# Altium schematic symbol library kmilo17pet-TI_MSP430.SchLib: 1463 symbols (part 65 of 130)
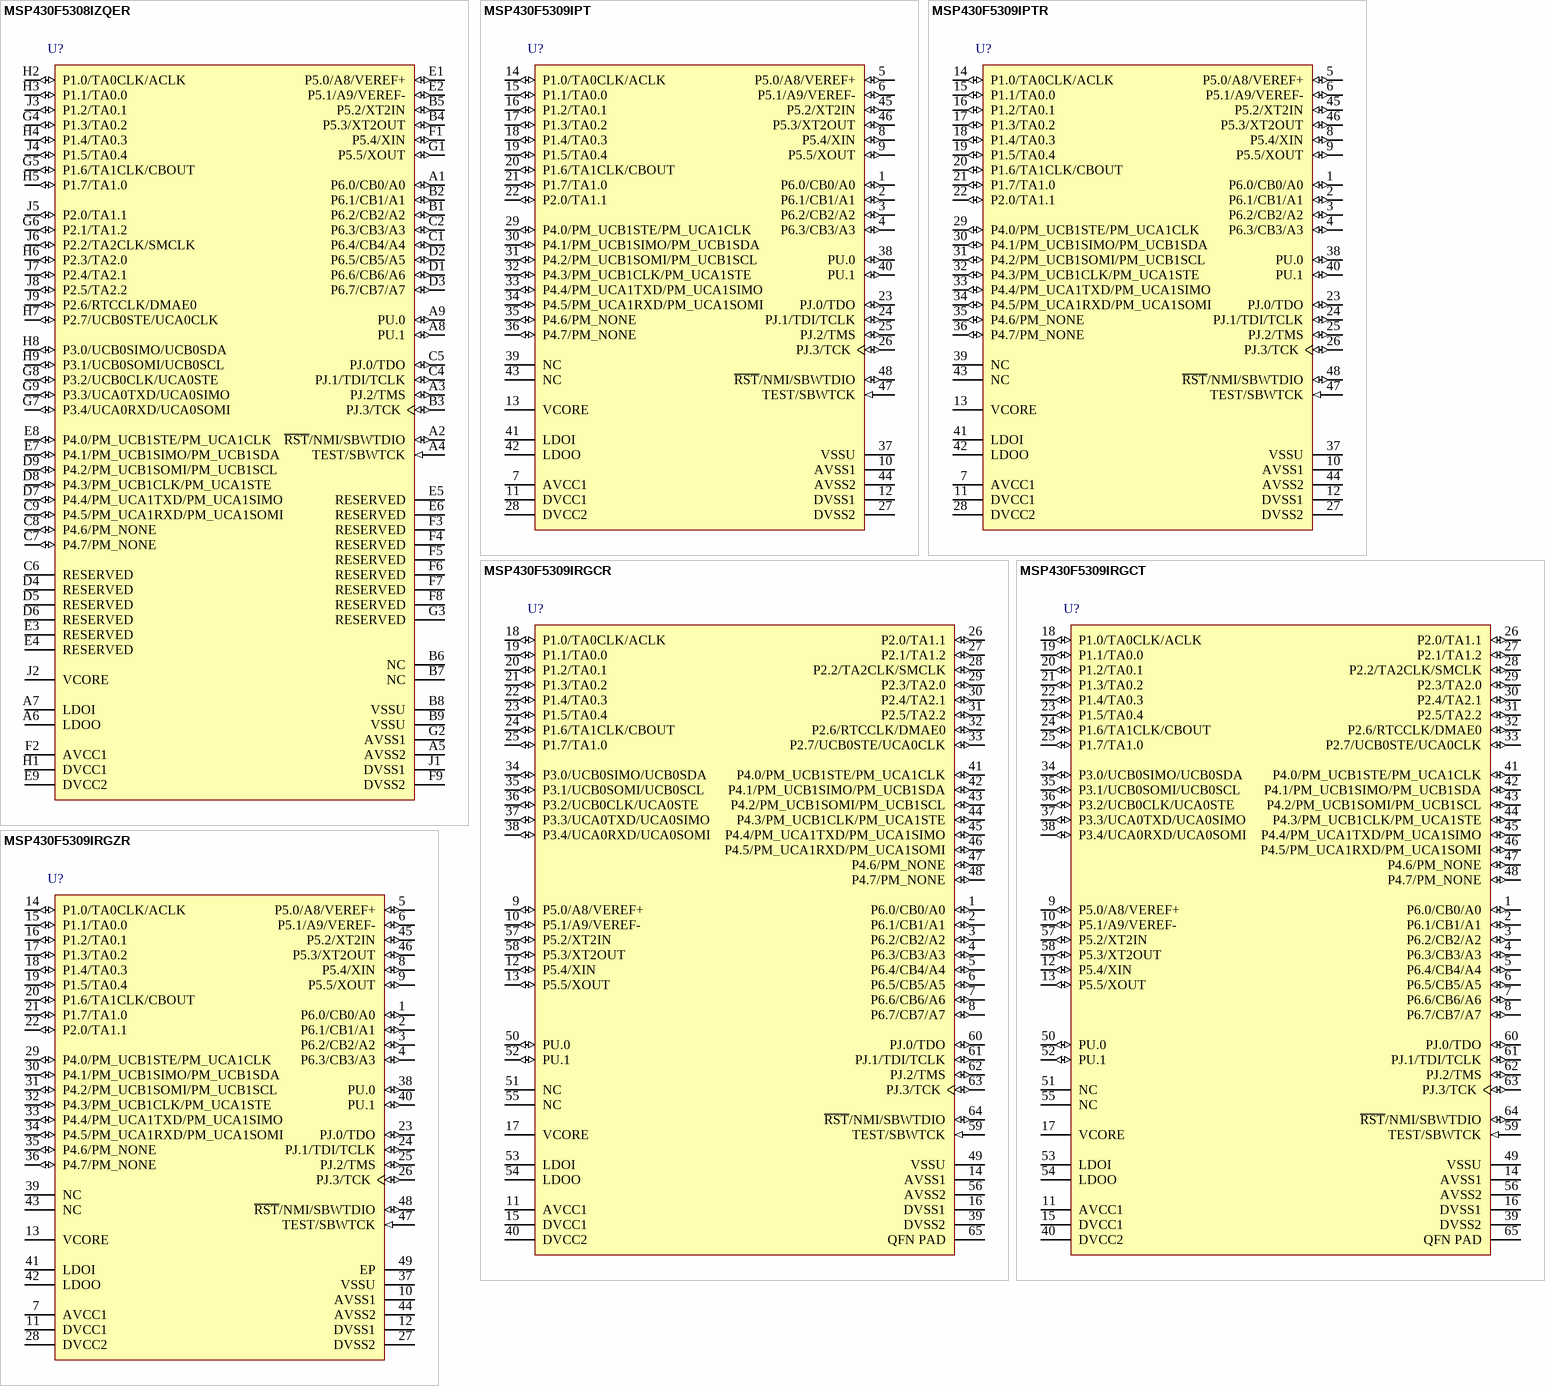
[diagram p268: symbols MSP430F5308IZQER to MSP430F5309IRGZR]

## MSP430F5309IRGCT
designator U?
25 MHz Mixed Signal Microcontroller with 24 KB Flash, 6144 B SRAM and 47 GPIOs, -40 to 85 degC, 64-pin QFN (RGC), Green (RoHS & no Sb/Br); Manufacturer: Texas Instruments; PartNumber: MSP430F5309IRGCT; ADC: 10-bit SAR; ADC Channels: 12; Brown Out Reset: Yes; DMA: 3; Flash(KB): 24; Frequency(MHz): 25; GPIO: 47; Multiplier: 32x32; SRAM(B): 6144; SubFamily: 5 Series; Timers - 16-bit: 4; USCI_A (UART/LIN/IrDA/SPI): 2; DatasheetVersion: SLAS677C; PackageVersion: 4204106/F; PackageReference: RGC64; PackageDescription: 64-Pin Plastic Flat Pack, Body 9 x 9 mm, Pitch 0.5 mm; Supplier 1: Digi-Key; Supplier Part Number 1: MSP430F5309IRGCR-ND; Supplier 2: Mouser; Supplier Part Number 2: 595-MSP430F5309IRGCR; Comparators: Yes; Eco-Plan: Green (RoHS & no Sb/Br); Real-Time Clock: Yes; SVS: Yes; Temp Sensor: Yes; USCI_B (I2C & SPI): 2; Watchdog: Yes; Mounting Technology: Surface Mount; ComponentLink1Description: Manufacturer URL; ComponentLink1URL: http://www.ti.com/; ComponentLink2Description: Datasheet; ComponentLink2URL: http://www.ti.com/general/docs/lit/getliterature.tsp?genericPartNumber=MSP430F5309&fileType=pdf; ComponentLink3Description: Package Specification; ComponentLink3URL: http://www.ti.com/lit/ds/symlink/ucd3138.pdf
footprint TI-RGC64-4250X4250TP_N (QFN, 64-Leads, Body 9x9mm, Pitch 0.5mm, Thermal Pad 4.25x4.25mm, IPC Medium Density)
pins: 1 P6.0/CB0/A0 (io), 2 P6.1/CB1/A1 (io), 3 P6.2/CB2/A2 (io), 4 P6.3/CB3/A3 (io), 5 P6.4/CB4/A4 (io), 6 P6.5/CB5/A5 (io), 7 P6.6/CB6/A6 (io), 8 P6.7/CB7/A7 (io), 9 P5.0/A8/VEREF+ (io), 10 P5.1/A9/VEREF- (io), 11 AVCC1 (power) "Analog power supply", 12 P5.4/XIN (io), 13 P5.5/XOUT (io), 14 AVSS1 (power) "Analog ground supply", 15 DVCC1 (power) "Digital power supply", 16 DVSS1 (power) "Regulated core power supply output (internal use only, no external current loading)", 17 VCORE "Regulated core power supply output (internal use only, no external current loading)", 18 P1.0/TA0CLK/ACLK (io), 19 P1.1/TA0.0 (io), 20 P1.2/TA0.1 (io), 21 P1.3/TA0.2 (io), 22 P1.4/TA0.3 (io), 23 P1.5/TA0.4 (io), 24 P1.6/TA1CLK/CBOUT (io), 25 P1.7/TA1.0 (io), 26 P2.0/TA1.1 (io), 27 P2.1/TA1.2 (io), 28 P2.2/TA2CLK/SMCLK (io), 29 P2.3/TA2.0 (io), 30 P2.4/TA2.1 (io), 31 P2.5/TA2.2 (io), 32 P2.6/RTCCLK/DMAE0 (io), 33 P2.7/UCB0STE/UCA0CLK (io), 34 P3.0/UCB0SIMO/UCB0SDA (io), 35 P3.1/UCB0SOMI/UCB0SCL (io), 36 P3.2/UCB0CLK/UCA0STE (io), 37 P3.3/UCA0TXD/UCA0SIMO (io), 38 P3.4/UCA0RXD/UCA0SOMI (io), 39 DVSS2 (power) "Digital ground supply", 40 DVCC2 (power) "Digital power supply", 41 P4.0/PM_UCB1STE/PM_UCA1CLK (io), 42 P4.1/PM_UCB1SIMO/PM_UCB1SDA (io), 43 P4.2/PM_UCB1SOMI/PM_UCB1SCL (io), 44 P4.3/PM_UCB1CLK/PM_UCA1STE (io), 45 P4.4/PM_UCA1TXD/PM_UCA1SIMO (io), 46 P4.5/PM_UCA1RXD/PM_UCA1SOMI (io), 47 P4.6/PM_NONE (io), 48 P4.7/PM_NONE (io), 49 VSSU (power) "PU ground supply", 50 PU.0 (io) "General-purpose digital I/O - controlled by PU control register", 51 NC "No connect.", 52 PU.1 (io) "General-purpose digital I/O - controlled by PU control register", 53 LDOI (power) "LDO input", 54 LDOO (power) "LDO output", 55 NC "No connect.", 56 AVSS2 (power) "Analog ground supply", 57 P5.2/XT2IN (io), 58 P5.3/XT2OUT (io), 59 TEST/SBWTCK (in), 60 PJ.0/TDO (io), 61 PJ.1/TDI/TCLK (io), 62 PJ.2/TMS (io), 63 PJ.3/TCK (io), 64 ~{RST}/NMI/SBWTDIO (io), 65 QFN PAD (power) "Exposed thermal pad on QFN packages. Connection to VSS is recommended"

## MSP430F5309IRGZR
designator U?
25 MHz Mixed Signal Microcontroller with 24 KB Flash, 6144 B SRAM and 47 GPIOs, -40 to 85 degC, 48-pin QFN (RGZ), Green (RoHS & no Sb/Br); Manufacturer: Texas Instruments; PartNumber: MSP430F5309IRGZR; ADC: 10-bit SAR; ADC Channels: 12; Brown Out Reset: Yes; DMA: 3; Flash(KB): 24; Frequency(MHz): 25; GPIO: 47; Multiplier: 32x32; SRAM(B): 6144; SubFamily: 5 Series; Timers - 16-bit: 4; USCI_A (UART/LIN/IrDA/SPI): 2; DatasheetVersion: SLAS677C; PackageVersion: 4204101/F; PackageReference: RGZ48-5150X5150TP; PackageDescription: 48-Pin Plastic Flat Pack, Body 7 x 7 mm, Pitch 0.5 mm; Supplier 1: Digi-Key; Supplier Part Number 1: MSP430F5309IRGCT-ND; Supplier 2: Mouser; Supplier Part Number 2: 595-MSP430F5309IRGCT; Comparators: Yes; Eco-Plan: Green (RoHS & no Sb/Br); Real-Time Clock: Yes; SVS: Yes; Temp Sensor: Yes; USCI_B (I2C & SPI): 2; Watchdog: Yes; Mounting Technology: Surface Mount; Code_JEDEC: MO-220; ComponentLink1Description: Manufacturer URL; ComponentLink1URL: http://www.ti.com/; ComponentLink2Description: Datasheet; ComponentLink2URL: http://www.ti.com/general/docs/lit/getliterature.tsp?genericPartNumber=MSP430F5309&fileType=pdf; ComponentLink3Description: Package Specification; ComponentLink3URL: http://www.ti.com/lit/ml/mpqf123e/mpqf123e.pdf
footprint TI-RGZ48-5150X5150TP_N (QFN, 48-Leads, Body 7x7mm, Pitch 0.5mm, Thermal Pad 5.15X5.15mm, IPC Medium Density)
pins: 1 P6.0/CB0/A0 (io), 2 P6.1/CB1/A1 (io), 3 P6.2/CB2/A2 (io), 4 P6.3/CB3/A3 (io), 5 P5.0/A8/VEREF+ (io), 6 P5.1/A9/VEREF- (io), 7 AVCC1 (power) "Analog power supply", 8 P5.4/XIN (io), 9 P5.5/XOUT (io), 10 AVSS1 (power) "Analog ground supply", 11 DVCC1 (power) "Digital power supply", 12 DVSS1 (power) "Digital ground supply", 13 VCORE "Regulated core power supply output (internal use only, no external current loading)", 14 P1.0/TA0CLK/ACLK (io), 15 P1.1/TA0.0 (io), 16 P1.2/TA0.1 (io), 17 P1.3/TA0.2 (io), 18 P1.4/TA0.3 (io), 19 P1.5/TA0.4 (io), 20 P1.6/TA1CLK/CBOUT (io), 21 P1.7/TA1.0 (io), 22 P2.0/TA1.1 (io), 23 PJ.0/TDO (io), 24 PJ.1/TDI/TCLK (io), 25 PJ.2/TMS (io), 26 PJ.3/TCK (io), 27 DVSS2 (power) "Digital ground supply", 28 DVCC2 (power) "Digital power supply", 29 P4.0/PM_UCB1STE/PM_UCA1CLK (io), 30 P4.1/PM_UCB1SIMO/PM_UCB1SDA (io), 31 P4.2/PM_UCB1SOMI/PM_UCB1SCL (io), 32 P4.3/PM_UCB1CLK/PM_UCA1STE (io), 33 P4.4/PM_UCA1TXD/PM_UCA1SIMO (io), 34 P4.5/PM_UCA1RXD/PM_UCA1SOMI (io), 35 P4.6/PM_NONE (io), 36 P4.7/PM_NONE (io), 37 VSSU (power) "PU ground supply", 38 PU.0 (io) "General-purpose digital I/O - controlled by PU control register", 39 NC "No connect.", 40 PU.1 (io) "General-purpose digital I/O - controlled by PU control register", 41 LDOI (power) "LDO input", 42 LDOO (power) "LDO output", 43 NC "No connect.", 44 AVSS2 (power) "Analog ground supply", 45 P5.2/XT2IN (io), 46 P5.3/XT2OUT (io), 47 TEST/SBWTCK (in), 48 ~{RST}/NMI/SBWTDIO (io), 49 EP (power) "Exposed thermal pad on QFN packages. Connection to VSS is recommended (not available on PT package devices)."

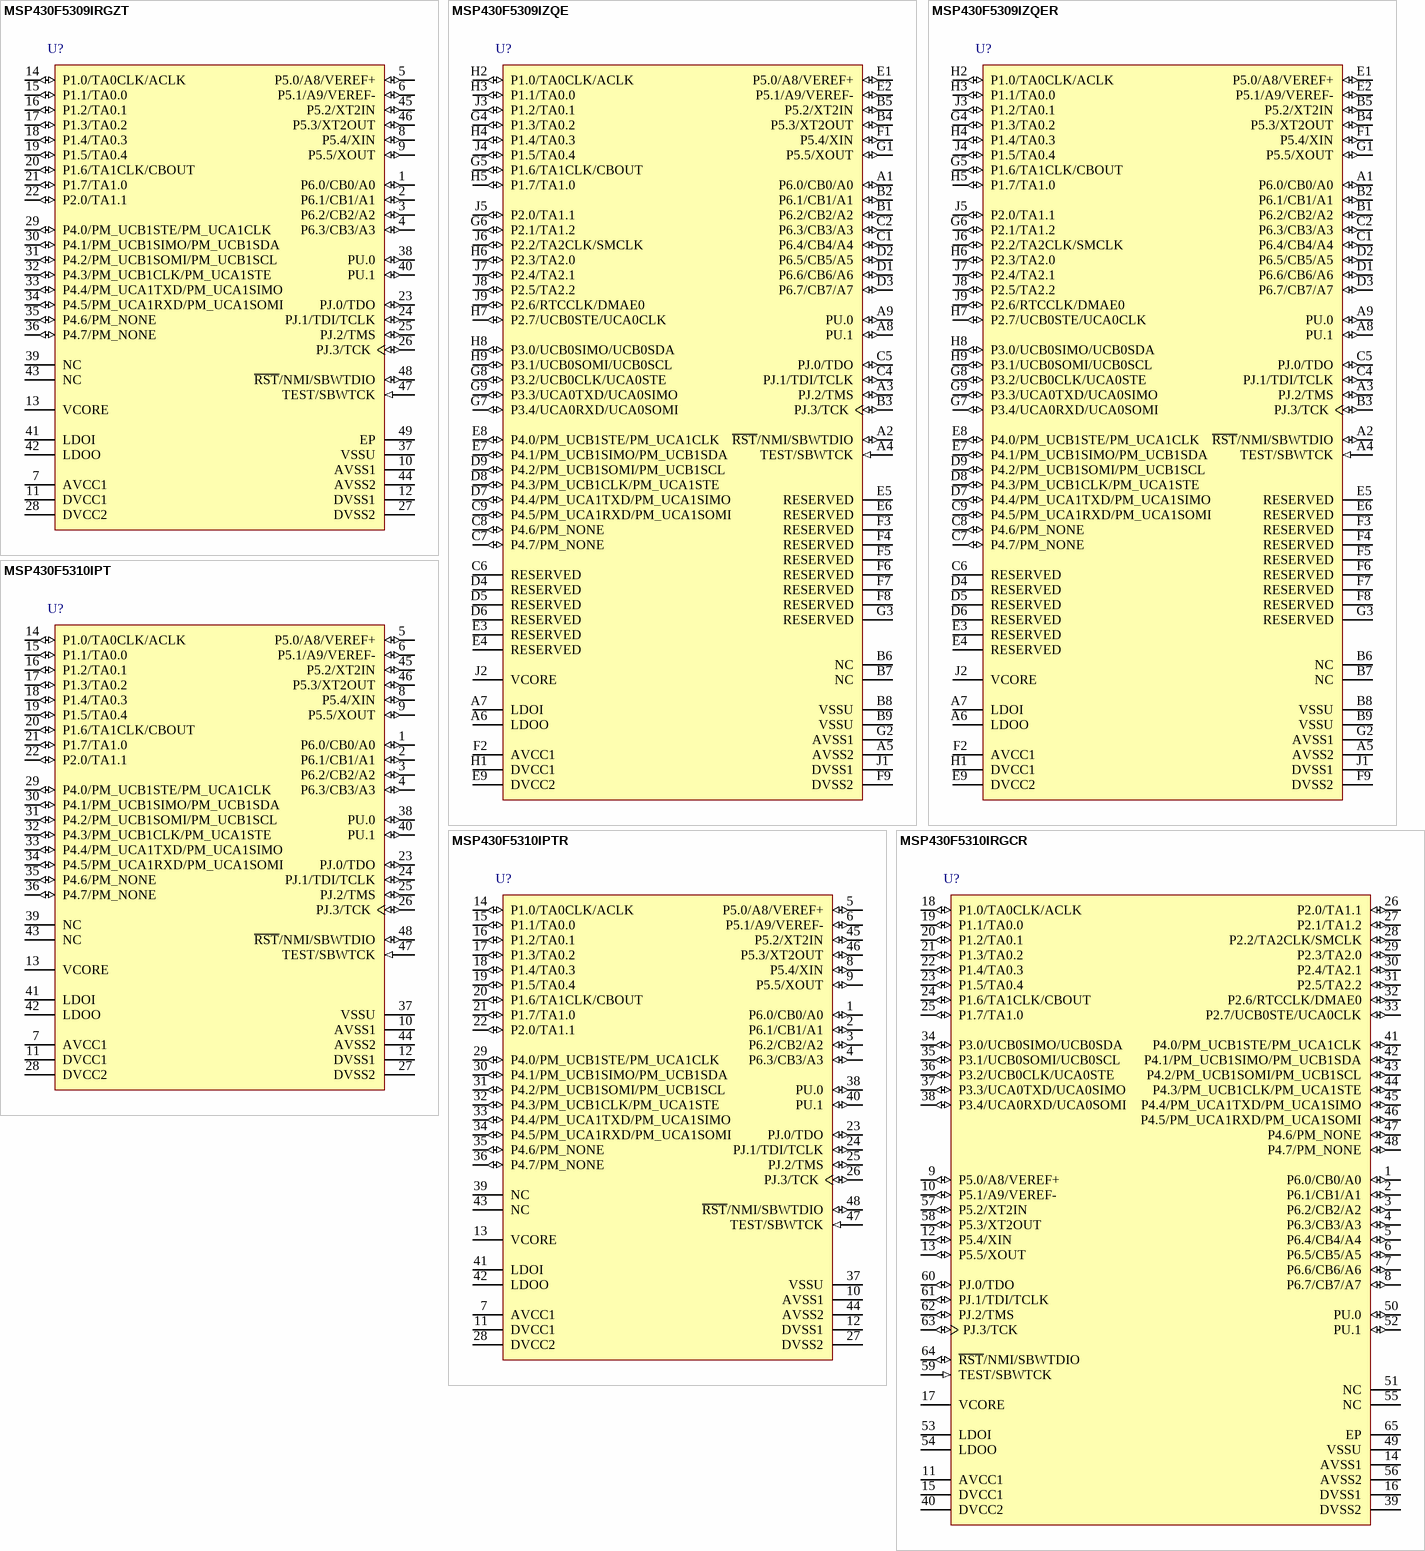
[diagram p96: symbols MSP430F5309IRGZT to MSP430F5310IRGCR]

## MSP430F5309IRGZT
designator U?
25 MHz Mixed Signal Microcontroller with 24 KB Flash, 6144 B SRAM and 47 GPIOs, -40 to 85 degC, 48-pin QFN (RGZ), Green (RoHS & no Sb/Br); Manufacturer: Texas Instruments; PartNumber: MSP430F5309IRGZT; ADC: 10-bit SAR; ADC Channels: 12; Brown Out Reset: Yes; DMA: 3; Flash(KB): 24; Frequency(MHz): 25; GPIO: 47; Multiplier: 32x32; SRAM(B): 6144; SubFamily: 5 Series; Timers - 16-bit: 4; USCI_A (UART/LIN/IrDA/SPI): 2; DatasheetVersion: SLAS677C; PackageVersion: 4204101/F; PackageReference: RGZ48-5150X5150TP; PackageDescription: 48-Pin Plastic Flat Pack, Body 7 x 7 mm, Pitch 0.5 mm; Supplier 1: Digi-Key; Supplier Part Number 1: 296-28192-2-ND; Supplier 2: Digi-Key; Supplier Part Number 2: 296-28192-1-ND; Supplier 3: Digi-Key; Supplier Part Number 3: 296-28192-6-ND; Supplier 4: Farnell; Supplier Part Number 4: 1866786; Supplier 5: Mouser; Supplier Part Number 5: 595-MSP430F5309IRGZR; Comparators: Yes; Eco-Plan: Green (RoHS & no Sb/Br); Real-Time Clock: Yes; SVS: Yes; Temp Sensor: Yes; USCI_B (I2C & SPI): 2; Watchdog: Yes; Mounting Technology: Surface Mount; Code_JEDEC: MO-220; ComponentLink1Description: Manufacturer URL; ComponentLink1URL: http://www.ti.com/; ComponentLink2Description: Datasheet; ComponentLink2URL: http://www.ti.com/general/docs/lit/getliterature.tsp?genericPartNumber=MSP430F5309&fileType=pdf; ComponentLink3Description: Package Specification; ComponentLink3URL: http://www.ti.com/lit/ml/mpqf123e/mpqf123e.pdf
footprint TI-RGZ48-5150X5150TP_N (QFN, 48-Leads, Body 7x7mm, Pitch 0.5mm, Thermal Pad 5.15X5.15mm, IPC Medium Density)
pins: 1 P6.0/CB0/A0 (io), 2 P6.1/CB1/A1 (io), 3 P6.2/CB2/A2 (io), 4 P6.3/CB3/A3 (io), 5 P5.0/A8/VEREF+ (io), 6 P5.1/A9/VEREF- (io), 7 AVCC1 (power) "Analog power supply", 8 P5.4/XIN (io), 9 P5.5/XOUT (io), 10 AVSS1 (power) "Analog ground supply", 11 DVCC1 (power) "Digital power supply", 12 DVSS1 (power) "Digital ground supply", 13 VCORE "Regulated core power supply output (internal use only, no external current loading)", 14 P1.0/TA0CLK/ACLK (io), 15 P1.1/TA0.0 (io), 16 P1.2/TA0.1 (io), 17 P1.3/TA0.2 (io), 18 P1.4/TA0.3 (io), 19 P1.5/TA0.4 (io), 20 P1.6/TA1CLK/CBOUT (io), 21 P1.7/TA1.0 (io), 22 P2.0/TA1.1 (io), 23 PJ.0/TDO (io), 24 PJ.1/TDI/TCLK (io), 25 PJ.2/TMS (io), 26 PJ.3/TCK (io), 27 DVSS2 (power) "Digital ground supply", 28 DVCC2 (power) "Digital power supply", 29 P4.0/PM_UCB1STE/PM_UCA1CLK (io), 30 P4.1/PM_UCB1SIMO/PM_UCB1SDA (io), 31 P4.2/PM_UCB1SOMI/PM_UCB1SCL (io), 32 P4.3/PM_UCB1CLK/PM_UCA1STE (io), 33 P4.4/PM_UCA1TXD/PM_UCA1SIMO (io), 34 P4.5/PM_UCA1RXD/PM_UCA1SOMI (io), 35 P4.6/PM_NONE (io), 36 P4.7/PM_NONE (io), 37 VSSU (power) "PU ground supply", 38 PU.0 (io) "General-purpose digital I/O - controlled by PU control register", 39 NC "No connect.", 40 PU.1 (io) "General-purpose digital I/O - controlled by PU control register", 41 LDOI (power) "LDO input", 42 LDOO (power) "LDO output", 43 NC "No connect.", 44 AVSS2 (power) "Analog ground supply", 45 P5.2/XT2IN (io), 46 P5.3/XT2OUT (io), 47 TEST/SBWTCK (in), 48 ~{RST}/NMI/SBWTDIO (io), 49 EP (power) "Exposed thermal pad on QFN packages. Connection to VSS is recommended (not available on PT package devices)."

## MSP430F5309IZQE
designator U?
25 MHz Mixed Signal Microcontroller with 24 KB Flash, 6144 B SRAM and 47 GPIOs, -40 to 85 degC, 80-pin BGA (ZQE), Green (RoHS & no Sb/Br); Manufacturer: Texas Instruments; PartNumber: MSP430F5309IZQE; ADC: 10-bit SAR; ADC Channels: 12; Brown Out Reset: Yes; DMA: 3; Flash(KB): 24; Frequency(MHz): 25; GPIO: 47; Multiplier: 32x32; SRAM(B): 6144; SubFamily: 5 Series; Timers - 16-bit: 4; USCI_A (UART/LIN/IrDA/SPI): 2; DatasheetVersion: SLAS677C; PackageVersion: 4204334-6/G; PackageReference: ZQE80; PackageDescription: 80-Pin Plastic Ball Grid Array, Body 5 x 5 mm, Pitch 0.5 mm; Supplier 1: Digi-Key; Supplier Part Number 1: 296-30059-2-ND; Supplier 2: Digi-Key; Supplier Part Number 2: 296-30059-1-ND; Supplier 3: Digi-Key; Supplier Part Number 3: 296-30059-6-ND; Supplier 4: Farnell; Supplier Part Number 4: 2072179; Supplier 5: Newark; Supplier Part Number 5: 74T4606; Supplier 6: Mouser; Supplier Part Number 6: 595-MSP430F5309IRGZT; Comparators: Yes; Eco-Plan: Green (RoHS & no Sb/Br); Real-Time Clock: Yes; SVS: Yes; Temp Sensor: Yes; USCI_B (I2C & SPI): 2; Watchdog: Yes; Mounting Technology: Surface Mount; Code_JEDEC: MO-225; ComponentLink1Description: Manufacturer URL; ComponentLink1URL: http://www.ti.com/; ComponentLink2Description: Datasheet; ComponentLink2URL: http://www.ti.com/general/docs/lit/getliterature.tsp?genericPartNumber=MSP430F5309&fileType=pdf; ComponentLink3Description: Package Specification; ComponentLink3URL: http://www.ti.com/litv/pdf/mpbg269e
footprint TI-ZQE80 (BGA, 80-Balls, Body 5x5mm, Pitch 0.5mm)
pins: A1 P6.0/CB0/A0 (io), A2 ~{RST}/NMI/SBWTDIO (io), A3 PJ.2/TMS (io), A4 TEST/SBWTCK (in), A5 AVSS2 (power) "Analog ground supply", A6 LDOO (power) "LDO output", A7 LDOI (power) "LDO input", A8 PU.1 (io) "General-purpose digital I/O - controlled by PU control register", A9 PU.0 (io) "General-purpose digital I/O - controlled by PU control register", B1 P6.2/CB2/A2 (io), B2 P6.1/CB1/A1 (io), B3 PJ.3/TCK (io), B4 P5.3/XT2OUT (io), B5 P5.2/XT2IN (io), B6 NC "No connect.", B7 NC "No connect.", B8 VSSU (power) "USB PHY ground supply", B9 VSSU (power) "USB PHY ground supply", C1 P6.4/CB4/A4 (io), C2 P6.3/CB3/A3 (io), C4 PJ.1/TDI/TCLK (io), C5 PJ.0/TDO (io), C6 RESERVED "should be connected to ground.", C7 P4.7/PM_NONE (io), C8 P4.6/PM_NONE (io), C9 P4.5/PM_UCA1RXD/PM_UCA1SOMI (io), D1 P6.6/CB6/A6 (io), D2 P6.5/CB5/A5 (io), D3 P6.7/CB7/A7 (io), D4 RESERVED "should be connected to ground.", D5 RESERVED "should be connected to ground.", D6 RESERVED "should be connected to ground.", D7 P4.4/PM_UCA1TXD/PM_UCA1SIMO (io), D8 P4.3/PM_UCB1CLK/PM_UCA1STE (io), D9 P4.2/PM_UCB1SOMI/PM_UCB1SCL (io), E1 P5.0/A8/VEREF+ (io), E2 P5.1/A9/VEREF- (io), E3 RESERVED "should be connected to ground.", E4 RESERVED "should be connected to ground.", E5 RESERVED "should be connected to ground.", E6 RESERVED "should be connected to ground.", E7 P4.1/PM_UCB1SIMO/PM_UCB1SDA (io), E8 P4.0/PM_UCB1STE/PM_UCA1CLK (io), E9 DVCC2 (power) "Digital power supply", F1 P5.4/XIN (io), F2 AVCC1 (power) "Analog power supply", F3 RESERVED "should be connected to ground.", F4 RESERVED "should be connected to ground.", F5 RESERVED "should be connected to ground.", F6 RESERVED "should be connected to ground.", F7 RESERVED "should be connected to ground.", F8 RESERVED "should be connected to ground.", F9 DVSS2 (power) "Digital ground supply", G1 P5.5/XOUT (io), G2 AVSS1 (power) "Analog ground supply", G3 RESERVED "should be connected to ground.", G4 P1.3/TA0.2 (io), G5 P1.6/TA1CLK/CBOUT (io), G6 P2.1/TA1.2 (io), G7 P3.4/UCA0RXD/UCA0SOMI (io), G8 P3.2/UCB0CLK/UCA0STE (io), G9 P3.3/UCA0TXD/UCA0SIMO (io), H1 DVCC1 (power) "Digital power supply", H2 P1.0/TA0CLK/ACLK (io), H3 P1.1/TA0.0 (io), H4 P1.4/TA0.3 (io), H5 P1.7/TA1.0 (io), H6 P2.3/TA2.0 (io), H7 P2.7/UCB0STE/UCA0CLK (io), H8 P3.0/UCB0SIMO/UCB0SDA (io), H9 P3.1/UCB0SOMI/UCB0SCL (io), J1 DVSS1 (power) "Digital ground supply", J2 VCORE "Regulated core power supply output (internal use only, no external current loading)", J3 P1.2/TA0.1 (io), J4 P1.5/TA0.4 (io), J5 P2.0/TA1.1 (io), J6 P2.2/TA2CLK/SMCLK (io), J7 P2.4/TA2.1 (io), J8 P2.5/TA2.2 (io), J9 P2.6/RTCCLK/DMAE0 (io)

## MSP430F5309IZQER
designator U?
25 MHz Mixed Signal Microcontroller with 24 KB Flash, 6144 B SRAM and 47 GPIOs, -40 to 85 degC, 80-pin BGA (ZQE), Green (RoHS & no Sb/Br); Manufacturer: Texas Instruments; PartNumber: MSP430F5309IZQER; ADC: 10-bit SAR; ADC Channels: 12; Brown Out Reset: Yes; DMA: 3; Flash(KB): 24; Frequency(MHz): 25; GPIO: 47; Multiplier: 32x32; SRAM(B): 6144; SubFamily: 5 Series; Timers - 16-bit: 4; USCI_A (UART/LIN/IrDA/SPI): 2; DatasheetVersion: SLAS677C; PackageVersion: 4204334-6/G; PackageReference: ZQE80; PackageDescription: 80-Pin Plastic Ball Grid Array, Body 5 x 5 mm, Pitch 0.5 mm; Supplier 1: Digi-Key; Supplier Part Number 1: MSP430F5309IZQE-ND; Supplier 2: Mouser; Supplier Part Number 2: 595-MSP430F5309IZQE; Comparators: Yes; Eco-Plan: Green (RoHS & no Sb/Br); Real-Time Clock: Yes; SVS: Yes; Temp Sensor: Yes; USCI_B (I2C & SPI): 2; Watchdog: Yes; Mounting Technology: Surface Mount; Code_JEDEC: MO-225; ComponentLink1Description: Manufacturer URL; ComponentLink1URL: http://www.ti.com/; ComponentLink2Description: Datasheet; ComponentLink2URL: http://www.ti.com/general/docs/lit/getliterature.tsp?genericPartNumber=MSP430F5309&fileType=pdf; ComponentLink3Description: Package Specification; ComponentLink3URL: http://www.ti.com/litv/pdf/mpbg269e
footprint TI-ZQE80 (BGA, 80-Balls, Body 5x5mm, Pitch 0.5mm)
pins: A1 P6.0/CB0/A0 (io), A2 ~{RST}/NMI/SBWTDIO (io), A3 PJ.2/TMS (io), A4 TEST/SBWTCK (in), A5 AVSS2 (power) "Analog ground supply", A6 LDOO (power) "LDO output", A7 LDOI (power) "LDO input", A8 PU.1 (io) "General-purpose digital I/O - controlled by PU control register", A9 PU.0 (io) "General-purpose digital I/O - controlled by PU control register", B1 P6.2/CB2/A2 (io), B2 P6.1/CB1/A1 (io), B3 PJ.3/TCK (io), B4 P5.3/XT2OUT (io), B5 P5.2/XT2IN (io), B6 NC "No connect.", B7 NC "No connect.", B8 VSSU (power) "USB PHY ground supply", B9 VSSU (power) "USB PHY ground supply", C1 P6.4/CB4/A4 (io), C2 P6.3/CB3/A3 (io), C4 PJ.1/TDI/TCLK (io), C5 PJ.0/TDO (io), C6 RESERVED "should be connected to ground.", C7 P4.7/PM_NONE (io), C8 P4.6/PM_NONE (io), C9 P4.5/PM_UCA1RXD/PM_UCA1SOMI (io), D1 P6.6/CB6/A6 (io), D2 P6.5/CB5/A5 (io), D3 P6.7/CB7/A7 (io), D4 RESERVED "should be connected to ground.", D5 RESERVED "should be connected to ground.", D6 RESERVED "should be connected to ground.", D7 P4.4/PM_UCA1TXD/PM_UCA1SIMO (io), D8 P4.3/PM_UCB1CLK/PM_UCA1STE (io), D9 P4.2/PM_UCB1SOMI/PM_UCB1SCL (io), E1 P5.0/A8/VEREF+ (io), E2 P5.1/A9/VEREF- (io), E3 RESERVED "should be connected to ground.", E4 RESERVED "should be connected to ground.", E5 RESERVED "should be connected to ground.", E6 RESERVED "should be connected to ground.", E7 P4.1/PM_UCB1SIMO/PM_UCB1SDA (io), E8 P4.0/PM_UCB1STE/PM_UCA1CLK (io), E9 DVCC2 (power) "Digital power supply", F1 P5.4/XIN (io), F2 AVCC1 (power) "Analog power supply", F3 RESERVED "should be connected to ground.", F4 RESERVED "should be connected to ground.", F5 RESERVED "should be connected to ground.", F6 RESERVED "should be connected to ground.", F7 RESERVED "should be connected to ground.", F8 RESERVED "should be connected to ground.", F9 DVSS2 (power) "Digital ground supply", G1 P5.5/XOUT (io), G2 AVSS1 (power) "Analog ground supply", G3 RESERVED "should be connected to ground.", G4 P1.3/TA0.2 (io), G5 P1.6/TA1CLK/CBOUT (io), G6 P2.1/TA1.2 (io), G7 P3.4/UCA0RXD/UCA0SOMI (io), G8 P3.2/UCB0CLK/UCA0STE (io), G9 P3.3/UCA0TXD/UCA0SIMO (io), H1 DVCC1 (power) "Digital power supply", H2 P1.0/TA0CLK/ACLK (io), H3 P1.1/TA0.0 (io), H4 P1.4/TA0.3 (io), H5 P1.7/TA1.0 (io), H6 P2.3/TA2.0 (io), H7 P2.7/UCB0STE/UCA0CLK (io), H8 P3.0/UCB0SIMO/UCB0SDA (io), H9 P3.1/UCB0SOMI/UCB0SCL (io), J1 DVSS1 (power) "Digital ground supply", J2 VCORE "Regulated core power supply output (internal use only, no external current loading)", J3 P1.2/TA0.1 (io), J4 P1.5/TA0.4 (io), J5 P2.0/TA1.1 (io), J6 P2.2/TA2CLK/SMCLK (io), J7 P2.4/TA2.1 (io), J8 P2.5/TA2.2 (io), J9 P2.6/RTCCLK/DMAE0 (io)

## MSP430F5310IPT
designator U?
25 MHz Mixed Signal Microcontroller with 32 KB Flash, 6144 B SRAM and 47 GPIOs, -40 to 85 degC, 48-pin QFP (PT), Green (RoHS & no Sb/Br); Manufacturer: Texas Instruments; PartNumber: MSP430F5310IPT; ADC: 10-bit SAR; ADC Channels: 12; Brown Out Reset: Yes; DMA: 3; Flash(KB): 32; Frequency(MHz): 25; GPIO: 47; Multiplier: 32x32; SRAM(B): 6144; SubFamily: 5 Series; Timers - 16-bit: 4; USCI_A (UART/LIN/IrDA/SPI): 2; DatasheetVersion: SLAS677C; PackageReference: PT48; PackageDescription: 48-Pin Plastic Flat Pack, Body 7.00 x 7.00 mm, Pitch 0.50 mm; Supplier 1: Digi-Key; Supplier Part Number 1: 296-28303-2-ND; Supplier 2: Digi-Key; Supplier Part Number 2: 296-28303-1-ND; Supplier 3: Digi-Key; Supplier Part Number 3: 296-28303-6-ND; Supplier 4: Mouser; Supplier Part Number 4: 595-MSP430F5309IZQER; Comparators: Yes; Eco-Plan: Green (RoHS & no Sb/Br); Real-Time Clock: Yes; SVS: Yes; Temp Sensor: Yes; USCI_B (I2C & SPI): 2; Watchdog: Yes; Mounting Technology: Surface Mount; Code_JEDEC: MS-026; ComponentLink1Description: Manufacturer URL; ComponentLink1URL: http://www.ti.com/; ComponentLink2Description: Datasheet; ComponentLink2URL: http://www.ti.com/general/docs/lit/getliterature.tsp?genericPartNumber=MSP430F5310&fileType=pdf; ComponentLink3Description: Package Specification; ComponentLink3URL: http://www.ti.com/lit/ml/mtqf003a/mtqf003a.pdf
footprint TI-PT48_N (QFP, 48-Leads, Body 7x7mm, Pitch 0.5mm, IPC Medium Density)
pins: 1 P6.0/CB0/A0 (io), 2 P6.1/CB1/A1 (io), 3 P6.2/CB2/A2 (io), 4 P6.3/CB3/A3 (io), 5 P5.0/A8/VEREF+ (io), 6 P5.1/A9/VEREF- (io), 7 AVCC1 (power) "Analog power supply", 8 P5.4/XIN (io), 9 P5.5/XOUT (io), 10 AVSS1 (power) "Analog ground supply", 11 DVCC1 (power) "Digital power supply", 12 DVSS1 (power) "Digital ground supply", 13 VCORE "Regulated core power supply output (internal use only, no external current loading)", 14 P1.0/TA0CLK/ACLK (io), 15 P1.1/TA0.0 (io), 16 P1.2/TA0.1 (io), 17 P1.3/TA0.2 (io), 18 P1.4/TA0.3 (io), 19 P1.5/TA0.4 (io), 20 P1.6/TA1CLK/CBOUT (io), 21 P1.7/TA1.0 (io), 22 P2.0/TA1.1 (io), 23 PJ.0/TDO (io), 24 PJ.1/TDI/TCLK (io), 25 PJ.2/TMS (io), 26 PJ.3/TCK (io), 27 DVSS2 (power) "Digital ground supply", 28 DVCC2 (power) "Digital power supply", 29 P4.0/PM_UCB1STE/PM_UCA1CLK (io), 30 P4.1/PM_UCB1SIMO/PM_UCB1SDA (io), 31 P4.2/PM_UCB1SOMI/PM_UCB1SCL (io), 32 P4.3/PM_UCB1CLK/PM_UCA1STE (io), 33 P4.4/PM_UCA1TXD/PM_UCA1SIMO (io), 34 P4.5/PM_UCA1RXD/PM_UCA1SOMI (io), 35 P4.6/PM_NONE (io), 36 P4.7/PM_NONE (io), 37 VSSU (power) "PU ground supply", 38 PU.0 (io) "General-purpose digital I/O - controlled by PU control register", 39 NC "No connect.", 40 PU.1 (io) "General-purpose digital I/O - controlled by PU control register", 41 LDOI (power) "LDO input", 42 LDOO (power) "LDO output", 43 NC "No connect.", 44 AVSS2 (power) "Analog ground supply", 45 P5.2/XT2IN (io), 46 P5.3/XT2OUT (io), 47 TEST/SBWTCK (in), 48 ~{RST}/NMI/SBWTDIO (io)

## MSP430F5310IPTR
designator U?
25 MHz Mixed Signal Microcontroller with 32 KB Flash, 6144 B SRAM and 47 GPIOs, -40 to 85 degC, 48-pin QFP (PT), Green (RoHS & no Sb/Br); Manufacturer: Texas Instruments; PartNumber: MSP430F5310IPTR; ADC: 10-bit SAR; ADC Channels: 12; Brown Out Reset: Yes; DMA: 3; Flash(KB): 32; Frequency(MHz): 25; GPIO: 47; Multiplier: 32x32; SRAM(B): 6144; SubFamily: 5 Series; Timers - 16-bit: 4; USCI_A (UART/LIN/IrDA/SPI): 2; DatasheetVersion: SLAS677C; PackageReference: PT48; PackageDescription: 48-Pin Plastic Flat Pack, Body 7.00 x 7.00 mm, Pitch 0.50 mm; Supplier 1: Digi-Key; Supplier Part Number 1: 296-31689-ND; Supplier 2: Farnell; Supplier Part Number 2: 1866787; Supplier 3: Newark; Supplier Part Number 3: 47T2188; Supplier 4: Mouser; Supplier Part Number 4: 595-MSP430F5310IPT; Comparators: Yes; Eco-Plan: Green (RoHS & no Sb/Br); Real-Time Clock: Yes; SVS: Yes; Temp Sensor: Yes; USCI_B (I2C & SPI): 2; Watchdog: Yes; Mounting Technology: Surface Mount; Code_JEDEC: MS-026; ComponentLink1Description: Manufacturer URL; ComponentLink1URL: http://www.ti.com/; ComponentLink2Description: Datasheet; ComponentLink2URL: http://www.ti.com/general/docs/lit/getliterature.tsp?genericPartNumber=MSP430F5310&fileType=pdf; ComponentLink3Description: Package Specification; ComponentLink3URL: http://www.ti.com/lit/ml/mtqf003a/mtqf003a.pdf
footprint TI-PT48_N (QFP, 48-Leads, Body 7x7mm, Pitch 0.5mm, IPC Medium Density)
pins: 1 P6.0/CB0/A0 (io), 2 P6.1/CB1/A1 (io), 3 P6.2/CB2/A2 (io), 4 P6.3/CB3/A3 (io), 5 P5.0/A8/VEREF+ (io), 6 P5.1/A9/VEREF- (io), 7 AVCC1 (power) "Analog power supply", 8 P5.4/XIN (io), 9 P5.5/XOUT (io), 10 AVSS1 (power) "Analog ground supply", 11 DVCC1 (power) "Digital power supply", 12 DVSS1 (power) "Digital ground supply", 13 VCORE "Regulated core power supply output (internal use only, no external current loading)", 14 P1.0/TA0CLK/ACLK (io), 15 P1.1/TA0.0 (io), 16 P1.2/TA0.1 (io), 17 P1.3/TA0.2 (io), 18 P1.4/TA0.3 (io), 19 P1.5/TA0.4 (io), 20 P1.6/TA1CLK/CBOUT (io), 21 P1.7/TA1.0 (io), 22 P2.0/TA1.1 (io), 23 PJ.0/TDO (io), 24 PJ.1/TDI/TCLK (io), 25 PJ.2/TMS (io), 26 PJ.3/TCK (io), 27 DVSS2 (power) "Digital ground supply", 28 DVCC2 (power) "Digital power supply", 29 P4.0/PM_UCB1STE/PM_UCA1CLK (io), 30 P4.1/PM_UCB1SIMO/PM_UCB1SDA (io), 31 P4.2/PM_UCB1SOMI/PM_UCB1SCL (io), 32 P4.3/PM_UCB1CLK/PM_UCA1STE (io), 33 P4.4/PM_UCA1TXD/PM_UCA1SIMO (io), 34 P4.5/PM_UCA1RXD/PM_UCA1SOMI (io), 35 P4.6/PM_NONE (io), 36 P4.7/PM_NONE (io), 37 VSSU (power) "PU ground supply", 38 PU.0 (io) "General-purpose digital I/O - controlled by PU control register", 39 NC "No connect.", 40 PU.1 (io) "General-purpose digital I/O - controlled by PU control register", 41 LDOI (power) "LDO input", 42 LDOO (power) "LDO output", 43 NC "No connect.", 44 AVSS2 (power) "Analog ground supply", 45 P5.2/XT2IN (io), 46 P5.3/XT2OUT (io), 47 TEST/SBWTCK (in), 48 ~{RST}/NMI/SBWTDIO (io)

## MSP430F5310IRGCR
designator U?
25 MHz Mixed Signal Microcontroller with 32 KB Flash, 6144 B SRAM and 47 GPIOs, -40 to 85 degC, 64-pin QFN (RGC), Green (RoHS & no Sb/Br); Manufacturer: Texas Instruments; PartNumber: MSP430F5310IRGCR; ADC: 10-bit SAR; ADC Channels: 12; Brown Out Reset: Yes; DMA: 3; Flash(KB): 32; Frequency(MHz): 25; GPIO: 47; Multiplier: 32x32; SRAM(B): 6144; SubFamily: 5 Series; Timers - 16-bit: 4; USCI_A (UART/LIN/IrDA/SPI): 2; DatasheetVersion: SLAS677C; PackageVersion: 4204106/F; PackageReference: RGC64; PackageDescription: 64-Pin Plastic Flat Pack, Body 9 x 9 mm, Pitch 0.5 mm; Supplier 1: Digi-Key; Supplier Part Number 1: 296-28193-2-ND; Supplier 2: Digi-Key; Supplier Part Number 2: 296-28193-1-ND; Supplier 3: Digi-Key; Supplier Part Number 3: 296-28193-6-ND; Supplier 4: Newark; Supplier Part Number 4: 27T6601; Supplier 5: Mouser; Supplier Part Number 5: 595-MSP430F5310IPTR; Comparators: Yes; Eco-Plan: Green (RoHS & no Sb/Br); Real-Time Clock: Yes; SVS: Yes; Temp Sensor: Yes; USCI_B (I2C & SPI): 2; Watchdog: Yes; Mounting Technology: Surface Mount; ComponentLink1Description: Manufacturer URL; ComponentLink1URL: http://www.ti.com/; ComponentLink2Description: Datasheet; ComponentLink2URL: http://www.ti.com/general/docs/lit/getliterature.tsp?genericPartNumber=MSP430F5310&fileType=pdf; ComponentLink3Description: Package Specification; ComponentLink3URL: http://www.ti.com/lit/ds/symlink/ucd3138.pdf
footprint TI-RGC64-4250X4250TP_N (QFN, 64-Leads, Body 9x9mm, Pitch 0.5mm, Thermal Pad 4.25x4.25mm, IPC Medium Density)
pins: 1 P6.0/CB0/A0 (io), 2 P6.1/CB1/A1 (io), 3 P6.2/CB2/A2 (io), 4 P6.3/CB3/A3 (io), 5 P6.4/CB4/A4 (io), 6 P6.5/CB5/A5 (io), 7 P6.6/CB6/A6 (io), 8 P6.7/CB7/A7 (io), 9 P5.0/A8/VEREF+ (io), 10 P5.1/A9/VEREF- (io), 11 AVCC1 (power) "Analog power supply", 12 P5.4/XIN (io), 13 P5.5/XOUT (io), 14 AVSS1 (power) "Analog ground supply", 15 DVCC1 (power) "Digital power supply", 16 DVSS1 (power) "Digital ground supply", 17 VCORE "Regulated core power supply output (internal use only, no external current loading)", 18 P1.0/TA0CLK/ACLK (io), 19 P1.1/TA0.0 (io), 20 P1.2/TA0.1 (io), 21 P1.3/TA0.2 (io), 22 P1.4/TA0.3 (io), 23 P1.5/TA0.4 (io), 24 P1.6/TA1CLK/CBOUT (io), 25 P1.7/TA1.0 (io), 26 P2.0/TA1.1 (io), 27 P2.1/TA1.2 (io), 28 P2.2/TA2CLK/SMCLK (io), 29 P2.3/TA2.0 (io), 30 P2.4/TA2.1 (io), 31 P2.5/TA2.2 (io), 32 P2.6/RTCCLK/DMAE0 (io), 33 P2.7/UCB0STE/UCA0CLK (io), 34 P3.0/UCB0SIMO/UCB0SDA (io), 35 P3.1/UCB0SOMI/UCB0SCL (io), 36 P3.2/UCB0CLK/UCA0STE (io), 37 P3.3/UCA0TXD/UCA0SIMO (io), 38 P3.4/UCA0RXD/UCA0SOMI (io), 39 DVSS2 (power) "Digital ground supply", 40 DVCC2 (power) "Digital power supply", 41 P4.0/PM_UCB1STE/PM_UCA1CLK (io), 42 P4.1/PM_UCB1SIMO/PM_UCB1SDA (io), 43 P4.2/PM_UCB1SOMI/PM_UCB1SCL (io), 44 P4.3/PM_UCB1CLK/PM_UCA1STE (io), 45 P4.4/PM_UCA1TXD/PM_UCA1SIMO (io), 46 P4.5/PM_UCA1RXD/PM_UCA1SOMI (io), 47 P4.6/PM_NONE (io), 48 P4.7/PM_NONE (io), 49 VSSU (power) "PU ground supply", 50 PU.0 (io) "General-purpose digital I/O - controlled by PU control register", 51 NC "No connect.", 52 PU.1 (io) "General-purpose digital I/O - controlled by PU control register", 53 LDOI (power) "LDO input", 54 LDOO (power) "LDO output", 55 NC "No connect.", 56 AVSS2 (power) "Analog ground supply", 57 P5.2/XT2IN (io), 58 P5.3/XT2OUT (io), 59 TEST/SBWTCK (in), 60 PJ.0/TDO (io), 61 PJ.1/TDI/TCLK (io), 62 PJ.2/TMS (io), 63 PJ.3/TCK (io), 64 ~{RST}/NMI/SBWTDIO (io), 65 EP (power) "Exposed thermal pad on QFN packages. Connection to VSS is recommended"

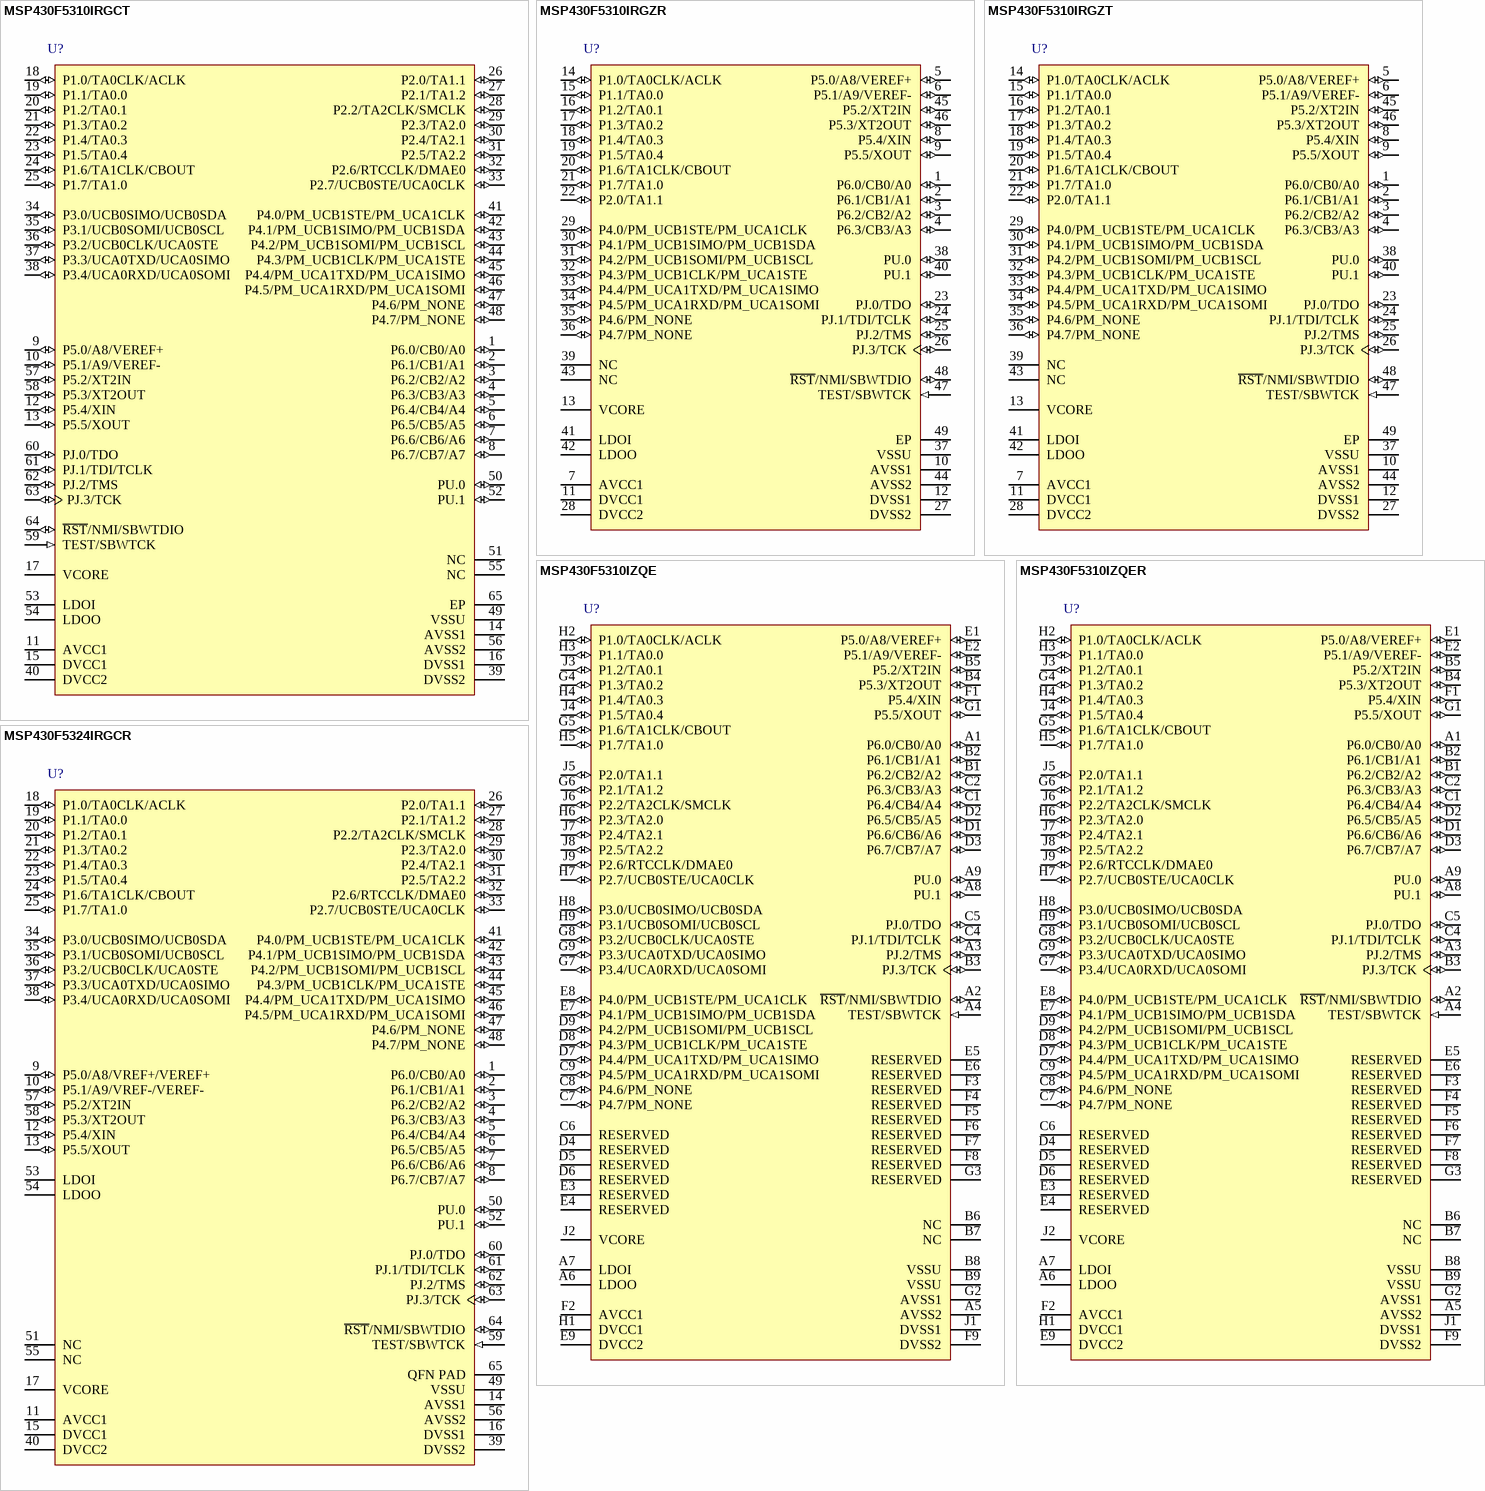
[diagram p97: symbols MSP430F5310IRGCT to MSP430F5324IRGCR]

## MSP430F5310IRGCT
designator U?
25 MHz Mixed Signal Microcontroller with 32 KB Flash, 6144 B SRAM and 47 GPIOs, -40 to 85 degC, 64-pin QFN (RGC), Green (RoHS & no Sb/Br); Manufacturer: Texas Instruments; PartNumber: MSP430F5310IRGCT; ADC: 10-bit SAR; ADC Channels: 12; Brown Out Reset: Yes; DMA: 3; Flash(KB): 32; Frequency(MHz): 25; GPIO: 47; Multiplier: 32x32; SRAM(B): 6144; SubFamily: 5 Series; Timers - 16-bit: 4; USCI_A (UART/LIN/IrDA/SPI): 2; DatasheetVersion: SLAS677C; PackageVersion: 4204106/F; PackageReference: RGC64; PackageDescription: 64-Pin Plastic Flat Pack, Body 9 x 9 mm, Pitch 0.5 mm; Supplier 1: Digi-Key; Supplier Part Number 1: 296-28132-2-ND; Supplier 2: Digi-Key; Supplier Part Number 2: 296-28132-1-ND; Supplier 3: Digi-Key; Supplier Part Number 3: 296-28132-6-ND; Supplier 4: Farnell; Supplier Part Number 4: 1866788; Supplier 5: Newark; Supplier Part Number 5: 47T2189; Supplier 6: Newark; Supplier Part Number 6: 27T6602; Supplier 7: Mouser; Supplier Part Number 7: 595-MSP430F5310IRGCR; Comparators: Yes; Eco-Plan: Green (RoHS & no Sb/Br); Real-Time Clock: Yes; SVS: Yes; Temp Sensor: Yes; USCI_B (I2C & SPI): 2; Watchdog: Yes; Mounting Technology: Surface Mount; ComponentLink1Description: Manufacturer URL; ComponentLink1URL: http://www.ti.com/; ComponentLink2Description: Datasheet; ComponentLink2URL: http://www.ti.com/general/docs/lit/getliterature.tsp?genericPartNumber=MSP430F5310&fileType=pdf; ComponentLink3Description: Package Specification; ComponentLink3URL: http://www.ti.com/lit/ds/symlink/ucd3138.pdf
footprint TI-RGC64-4250X4250TP_N (QFN, 64-Leads, Body 9x9mm, Pitch 0.5mm, Thermal Pad 4.25x4.25mm, IPC Medium Density)
pins: 1 P6.0/CB0/A0 (io), 2 P6.1/CB1/A1 (io), 3 P6.2/CB2/A2 (io), 4 P6.3/CB3/A3 (io), 5 P6.4/CB4/A4 (io), 6 P6.5/CB5/A5 (io), 7 P6.6/CB6/A6 (io), 8 P6.7/CB7/A7 (io), 9 P5.0/A8/VEREF+ (io), 10 P5.1/A9/VEREF- (io), 11 AVCC1 (power) "Analog power supply", 12 P5.4/XIN (io), 13 P5.5/XOUT (io), 14 AVSS1 (power) "Analog ground supply", 15 DVCC1 (power) "Digital power supply", 16 DVSS1 (power) "Digital ground supply", 17 VCORE "Regulated core power supply output (internal use only, no external current loading)", 18 P1.0/TA0CLK/ACLK (io), 19 P1.1/TA0.0 (io), 20 P1.2/TA0.1 (io), 21 P1.3/TA0.2 (io), 22 P1.4/TA0.3 (io), 23 P1.5/TA0.4 (io), 24 P1.6/TA1CLK/CBOUT (io), 25 P1.7/TA1.0 (io), 26 P2.0/TA1.1 (io), 27 P2.1/TA1.2 (io), 28 P2.2/TA2CLK/SMCLK (io), 29 P2.3/TA2.0 (io), 30 P2.4/TA2.1 (io), 31 P2.5/TA2.2 (io), 32 P2.6/RTCCLK/DMAE0 (io), 33 P2.7/UCB0STE/UCA0CLK (io), 34 P3.0/UCB0SIMO/UCB0SDA (io), 35 P3.1/UCB0SOMI/UCB0SCL (io), 36 P3.2/UCB0CLK/UCA0STE (io), 37 P3.3/UCA0TXD/UCA0SIMO (io), 38 P3.4/UCA0RXD/UCA0SOMI (io), 39 DVSS2 (power) "Digital ground supply", 40 DVCC2 (power) "Digital power supply", 41 P4.0/PM_UCB1STE/PM_UCA1CLK (io), 42 P4.1/PM_UCB1SIMO/PM_UCB1SDA (io), 43 P4.2/PM_UCB1SOMI/PM_UCB1SCL (io), 44 P4.3/PM_UCB1CLK/PM_UCA1STE (io), 45 P4.4/PM_UCA1TXD/PM_UCA1SIMO (io), 46 P4.5/PM_UCA1RXD/PM_UCA1SOMI (io), 47 P4.6/PM_NONE (io), 48 P4.7/PM_NONE (io), 49 VSSU (power) "PU ground supply", 50 PU.0 (io) "General-purpose digital I/O - controlled by PU control register", 51 NC "No connect.", 52 PU.1 (io) "General-purpose digital I/O - controlled by PU control register", 53 LDOI (power) "LDO input", 54 LDOO (power) "LDO output", 55 NC "No connect.", 56 AVSS2 (power) "Analog ground supply", 57 P5.2/XT2IN (io), 58 P5.3/XT2OUT (io), 59 TEST/SBWTCK (in), 60 PJ.0/TDO (io), 61 PJ.1/TDI/TCLK (io), 62 PJ.2/TMS (io), 63 PJ.3/TCK (io), 64 ~{RST}/NMI/SBWTDIO (io), 65 EP (power) "Exposed thermal pad on QFN packages. Connection to VSS is recommended"

## MSP430F5310IRGZR
designator U?
25 MHz Mixed Signal Microcontroller with 32 KB Flash, 6144 B SRAM and 47 GPIOs, -40 to 85 degC, 48-pin QFN (RGZ), Green (RoHS & no Sb/Br); Manufacturer: Texas Instruments; PartNumber: MSP430F5310IRGZR; ADC: 10-bit SAR; ADC Channels: 12; Brown Out Reset: Yes; DMA: 3; Flash(KB): 32; Frequency(MHz): 25; GPIO: 47; Multiplier: 32x32; SRAM(B): 6144; SubFamily: 5 Series; Timers - 16-bit: 4; USCI_A (UART/LIN/IrDA/SPI): 2; DatasheetVersion: SLAS677C; PackageVersion: 4204101/F; PackageReference: RGZ48-5150X5150TP; PackageDescription: 48-Pin Plastic Flat Pack, Body 7 x 7 mm, Pitch 0.5 mm; Supplier 1: Digi-Key; Supplier Part Number 1: 296-31690-2-ND; Supplier 2: Digi-Key; Supplier Part Number 2: 296-31690-1-ND; Supplier 3: Digi-Key; Supplier Part Number 3: 296-31690-6-ND; Supplier 4: Mouser; Supplier Part Number 4: 595-MSP430F5310IRGCT; Comparators: Yes; Eco-Plan: Green (RoHS & no Sb/Br); Real-Time Clock: Yes; SVS: Yes; Temp Sensor: Yes; USCI_B (I2C & SPI): 2; Watchdog: Yes; Mounting Technology: Surface Mount; Code_JEDEC: MO-220; ComponentLink1Description: Manufacturer URL; ComponentLink1URL: http://www.ti.com/; ComponentLink2Description: Datasheet; ComponentLink2URL: http://www.ti.com/general/docs/lit/getliterature.tsp?genericPartNumber=MSP430F5310&fileType=pdf; ComponentLink3Description: Package Specification; ComponentLink3URL: http://www.ti.com/lit/ml/mpqf123e/mpqf123e.pdf
footprint TI-RGZ48-5150X5150TP_N (QFN, 48-Leads, Body 7x7mm, Pitch 0.5mm, Thermal Pad 5.15X5.15mm, IPC Medium Density)
pins: 1 P6.0/CB0/A0 (io), 2 P6.1/CB1/A1 (io), 3 P6.2/CB2/A2 (io), 4 P6.3/CB3/A3 (io), 5 P5.0/A8/VEREF+ (io), 6 P5.1/A9/VEREF- (io), 7 AVCC1 (power) "Analog power supply", 8 P5.4/XIN (io), 9 P5.5/XOUT (io), 10 AVSS1 (power) "Analog ground supply", 11 DVCC1 (power) "Digital power supply", 12 DVSS1 (power) "Digital ground supply", 13 VCORE "Regulated core power supply output (internal use only, no external current loading)", 14 P1.0/TA0CLK/ACLK (io), 15 P1.1/TA0.0 (io), 16 P1.2/TA0.1 (io), 17 P1.3/TA0.2 (io), 18 P1.4/TA0.3 (io), 19 P1.5/TA0.4 (io), 20 P1.6/TA1CLK/CBOUT (io), 21 P1.7/TA1.0 (io), 22 P2.0/TA1.1 (io), 23 PJ.0/TDO (io), 24 PJ.1/TDI/TCLK (io), 25 PJ.2/TMS (io), 26 PJ.3/TCK (io), 27 DVSS2 (power) "Digital ground supply", 28 DVCC2 (power) "Digital power supply", 29 P4.0/PM_UCB1STE/PM_UCA1CLK (io), 30 P4.1/PM_UCB1SIMO/PM_UCB1SDA (io), 31 P4.2/PM_UCB1SOMI/PM_UCB1SCL (io), 32 P4.3/PM_UCB1CLK/PM_UCA1STE (io), 33 P4.4/PM_UCA1TXD/PM_UCA1SIMO (io), 34 P4.5/PM_UCA1RXD/PM_UCA1SOMI (io), 35 P4.6/PM_NONE (io), 36 P4.7/PM_NONE (io), 37 VSSU (power) "PU ground supply", 38 PU.0 (io) "General-purpose digital I/O - controlled by PU control register", 39 NC "No connect.", 40 PU.1 (io) "General-purpose digital I/O - controlled by PU control register", 41 LDOI (power) "LDO input", 42 LDOO (power) "LDO output", 43 NC "No connect.", 44 AVSS2 (power) "Analog ground supply", 45 P5.2/XT2IN (io), 46 P5.3/XT2OUT (io), 47 TEST/SBWTCK (in), 48 ~{RST}/NMI/SBWTDIO (io), 49 EP (power) "Exposed thermal pad on QFN packages. Connection to VSS is recommended (not available on PT package devices)."

## MSP430F5310IRGZT
designator U?
25 MHz Mixed Signal Microcontroller with 32 KB Flash, 6144 B SRAM and 47 GPIOs, -40 to 85 degC, 48-pin QFN (RGZ), Green (RoHS & no Sb/Br); Manufacturer: Texas Instruments; PartNumber: MSP430F5310IRGZT; ADC: 10-bit SAR; ADC Channels: 12; Brown Out Reset: Yes; DMA: 3; Flash(KB): 32; Frequency(MHz): 25; GPIO: 47; Multiplier: 32x32; SRAM(B): 6144; SubFamily: 5 Series; Timers - 16-bit: 4; USCI_A (UART/LIN/IrDA/SPI): 2; DatasheetVersion: SLAS677C; PackageVersion: 4204101/F; PackageReference: RGZ48-5150X5150TP; PackageDescription: 48-Pin Plastic Flat Pack, Body 7 x 7 mm, Pitch 0.5 mm; Supplier 1: Digi-Key; Supplier Part Number 1: 296-28133-2-ND; Supplier 2: Digi-Key; Supplier Part Number 2: 296-28133-1-ND; Supplier 3: Digi-Key; Supplier Part Number 3: 296-28133-6-ND; Supplier 4: Farnell; Supplier Part Number 4: 1866789; Supplier 5: Newark; Supplier Part Number 5: 47T2190; Supplier 6: Newark; Supplier Part Number 6: 27T6604; Supplier 7: Mouser; Supplier Part Number 7: 595-MSP430F5310IRGZR; Comparators: Yes; Eco-Plan: Green (RoHS & no Sb/Br); Real-Time Clock: Yes; SVS: Yes; Temp Sensor: Yes; USCI_B (I2C & SPI): 2; Watchdog: Yes; Mounting Technology: Surface Mount; Code_JEDEC: MO-220; ComponentLink1Description: Manufacturer URL; ComponentLink1URL: http://www.ti.com/; ComponentLink2Description: Datasheet; ComponentLink2URL: http://www.ti.com/general/docs/lit/getliterature.tsp?genericPartNumber=MSP430F5310&fileType=pdf; ComponentLink3Description: Package Specification; ComponentLink3URL: http://www.ti.com/lit/ml/mpqf123e/mpqf123e.pdf
footprint TI-RGZ48-5150X5150TP_N (QFN, 48-Leads, Body 7x7mm, Pitch 0.5mm, Thermal Pad 5.15X5.15mm, IPC Medium Density)
pins: 1 P6.0/CB0/A0 (io), 2 P6.1/CB1/A1 (io), 3 P6.2/CB2/A2 (io), 4 P6.3/CB3/A3 (io), 5 P5.0/A8/VEREF+ (io), 6 P5.1/A9/VEREF- (io), 7 AVCC1 (power) "Analog power supply", 8 P5.4/XIN (io), 9 P5.5/XOUT (io), 10 AVSS1 (power) "Analog ground supply", 11 DVCC1 (power) "Digital power supply", 12 DVSS1 (power) "Digital ground supply", 13 VCORE "Regulated core power supply output (internal use only, no external current loading)", 14 P1.0/TA0CLK/ACLK (io), 15 P1.1/TA0.0 (io), 16 P1.2/TA0.1 (io), 17 P1.3/TA0.2 (io), 18 P1.4/TA0.3 (io), 19 P1.5/TA0.4 (io), 20 P1.6/TA1CLK/CBOUT (io), 21 P1.7/TA1.0 (io), 22 P2.0/TA1.1 (io), 23 PJ.0/TDO (io), 24 PJ.1/TDI/TCLK (io), 25 PJ.2/TMS (io), 26 PJ.3/TCK (io), 27 DVSS2 (power) "Digital ground supply", 28 DVCC2 (power) "Digital power supply", 29 P4.0/PM_UCB1STE/PM_UCA1CLK (io), 30 P4.1/PM_UCB1SIMO/PM_UCB1SDA (io), 31 P4.2/PM_UCB1SOMI/PM_UCB1SCL (io), 32 P4.3/PM_UCB1CLK/PM_UCA1STE (io), 33 P4.4/PM_UCA1TXD/PM_UCA1SIMO (io), 34 P4.5/PM_UCA1RXD/PM_UCA1SOMI (io), 35 P4.6/PM_NONE (io), 36 P4.7/PM_NONE (io), 37 VSSU (power) "PU ground supply", 38 PU.0 (io) "General-purpose digital I/O - controlled by PU control register", 39 NC "No connect.", 40 PU.1 (io) "General-purpose digital I/O - controlled by PU control register", 41 LDOI (power) "LDO input", 42 LDOO (power) "LDO output", 43 NC "No connect.", 44 AVSS2 (power) "Analog ground supply", 45 P5.2/XT2IN (io), 46 P5.3/XT2OUT (io), 47 TEST/SBWTCK (in), 48 ~{RST}/NMI/SBWTDIO (io), 49 EP (power) "Exposed thermal pad on QFN packages. Connection to VSS is recommended (not available on PT package devices)."

## MSP430F5310IZQE
designator U?
25 MHz Mixed Signal Microcontroller with 32 KB Flash, 6144 B SRAM and 47 GPIOs, -40 to 85 degC, 80-pin BGA (ZQE), Green (RoHS & no Sb/Br); Manufacturer: Texas Instruments; PartNumber: MSP430F5310IZQE; ADC: 10-bit SAR; ADC Channels: 12; Brown Out Reset: Yes; DMA: 3; Flash(KB): 32; Frequency(MHz): 25; GPIO: 47; Multiplier: 32x32; SRAM(B): 6144; SubFamily: 5 Series; Timers - 16-bit: 4; USCI_A (UART/LIN/IrDA/SPI): 2; DatasheetVersion: SLAS677C; PackageVersion: 4204334-6/G; PackageReference: ZQE80; PackageDescription: 80-Pin Plastic Ball Grid Array, Body 5 x 5 mm, Pitch 0.5 mm; Supplier 1: Digi-Key; Supplier Part Number 1: MSP430F5310IRGZT-ND; Supplier 2: Newark; Supplier Part Number 2: 32T2958; Supplier 3: Mouser; Supplier Part Number 3: 595-MSP430F5310IRGZT; Comparators: Yes; Eco-Plan: Green (RoHS & no Sb/Br); Real-Time Clock: Yes; SVS: Yes; Temp Sensor: Yes; USCI_B (I2C & SPI): 2; Watchdog: Yes; Mounting Technology: Surface Mount; Code_JEDEC: MO-225; ComponentLink1Description: Manufacturer URL; ComponentLink1URL: http://www.ti.com/; ComponentLink2Description: Datasheet; ComponentLink2URL: http://www.ti.com/general/docs/lit/getliterature.tsp?genericPartNumber=MSP430F5310&fileType=pdf; ComponentLink3Description: Package Specification; ComponentLink3URL: http://www.ti.com/litv/pdf/mpbg269e
footprint TI-ZQE80 (BGA, 80-Balls, Body 5x5mm, Pitch 0.5mm)
pins: A1 P6.0/CB0/A0 (io), A2 ~{RST}/NMI/SBWTDIO (io), A3 PJ.2/TMS (io), A4 TEST/SBWTCK (in), A5 AVSS2 (power) "Analog ground supply", A6 LDOO (power) "LDO output", A7 LDOI (power) "LDO input", A8 PU.1 (io) "General-purpose digital I/O - controlled by PU control register", A9 PU.0 (io) "General-purpose digital I/O - controlled by PU control register", B1 P6.2/CB2/A2 (io), B2 P6.1/CB1/A1 (io), B3 PJ.3/TCK (io), B4 P5.3/XT2OUT (io), B5 P5.2/XT2IN (io), B6 NC "No connect.", B7 NC "No connect.", B8 VSSU (power) "USB PHY ground supply", B9 VSSU (power) "USB PHY ground supply", C1 P6.4/CB4/A4 (io), C2 P6.3/CB3/A3 (io), C4 PJ.1/TDI/TCLK (io), C5 PJ.0/TDO (io), C6 RESERVED "should be connected to ground.", C7 P4.7/PM_NONE (io), C8 P4.6/PM_NONE (io), C9 P4.5/PM_UCA1RXD/PM_UCA1SOMI (io), D1 P6.6/CB6/A6 (io), D2 P6.5/CB5/A5 (io), D3 P6.7/CB7/A7 (io), D4 RESERVED "should be connected to ground.", D5 RESERVED "should be connected to ground.", D6 RESERVED "should be connected to ground.", D7 P4.4/PM_UCA1TXD/PM_UCA1SIMO (io), D8 P4.3/PM_UCB1CLK/PM_UCA1STE (io), D9 P4.2/PM_UCB1SOMI/PM_UCB1SCL (io), E1 P5.0/A8/VEREF+ (io), E2 P5.1/A9/VEREF- (io), E3 RESERVED "should be connected to ground.", E4 RESERVED "should be connected to ground.", E5 RESERVED "should be connected to ground.", E6 RESERVED "should be connected to ground.", E7 P4.1/PM_UCB1SIMO/PM_UCB1SDA (io), E8 P4.0/PM_UCB1STE/PM_UCA1CLK (io), E9 DVCC2 (power) "Digital power supply", F1 P5.4/XIN (io), F2 AVCC1 (power) "Analog power supply", F3 RESERVED "should be connected to ground.", F4 RESERVED "should be connected to ground.", F5 RESERVED "should be connected to ground.", F6 RESERVED "should be connected to ground.", F7 RESERVED "should be connected to ground.", F8 RESERVED "should be connected to ground.", F9 DVSS2 (power) "Digital ground supply", G1 P5.5/XOUT (io), G2 AVSS1 (power) "Analog ground supply", G3 RESERVED "should be connected to ground.", G4 P1.3/TA0.2 (io), G5 P1.6/TA1CLK/CBOUT (io), G6 P2.1/TA1.2 (io), G7 P3.4/UCA0RXD/UCA0SOMI (io), G8 P3.2/UCB0CLK/UCA0STE (io), G9 P3.3/UCA0TXD/UCA0SIMO (io), H1 DVCC1 (power) "Digital power supply", H2 P1.0/TA0CLK/ACLK (io), H3 P1.1/TA0.0 (io), H4 P1.4/TA0.3 (io), H5 P1.7/TA1.0 (io), H6 P2.3/TA2.0 (io), H7 P2.7/UCB0STE/UCA0CLK (io), H8 P3.0/UCB0SIMO/UCB0SDA (io), H9 P3.1/UCB0SOMI/UCB0SCL (io), J1 DVSS1 (power) "Digital ground supply", J2 VCORE "Regulated core power supply output (internal use only, no external current loading)", J3 P1.2/TA0.1 (io), J4 P1.5/TA0.4 (io), J5 P2.0/TA1.1 (io), J6 P2.2/TA2CLK/SMCLK (io), J7 P2.4/TA2.1 (io), J8 P2.5/TA2.2 (io), J9 P2.6/RTCCLK/DMAE0 (io)

## MSP430F5310IZQER
designator U?
25 MHz Mixed Signal Microcontroller with 32 KB Flash, 6144 B SRAM and 47 GPIOs, -40 to 85 degC, 80-pin BGA (ZQE), Green (RoHS & no Sb/Br); Manufacturer: Texas Instruments; PartNumber: MSP430F5310IZQER; ADC: 10-bit SAR; ADC Channels: 12; Brown Out Reset: Yes; DMA: 3; Flash(KB): 32; Frequency(MHz): 25; GPIO: 47; Multiplier: 32x32; SRAM(B): 6144; SubFamily: 5 Series; Timers - 16-bit: 4; USCI_A (UART/LIN/IrDA/SPI): 2; DatasheetVersion: SLAS677C; PackageVersion: 4204334-6/G; PackageReference: ZQE80; PackageDescription: 80-Pin Plastic Ball Grid Array, Body 5 x 5 mm, Pitch 0.5 mm; Supplier 1: Digi-Key; Supplier Part Number 1: MSP430F5310IZQE-ND; Supplier 2: Mouser; Supplier Part Number 2: 595-MSP430F5310IZQE; Comparators: Yes; Eco-Plan: Green (RoHS & no Sb/Br); Real-Time Clock: Yes; SVS: Yes; Temp Sensor: Yes; USCI_B (I2C & SPI): 2; Watchdog: Yes; Mounting Technology: Surface Mount; Code_JEDEC: MO-225; ComponentLink1Description: Manufacturer URL; ComponentLink1URL: http://www.ti.com/; ComponentLink2Description: Datasheet; ComponentLink2URL: http://www.ti.com/general/docs/lit/getliterature.tsp?genericPartNumber=MSP430F5310&fileType=pdf; ComponentLink3Description: Package Specification; ComponentLink3URL: http://www.ti.com/litv/pdf/mpbg269e
footprint TI-ZQE80 (BGA, 80-Balls, Body 5x5mm, Pitch 0.5mm)
pins: A1 P6.0/CB0/A0 (io), A2 ~{RST}/NMI/SBWTDIO (io), A3 PJ.2/TMS (io), A4 TEST/SBWTCK (in), A5 AVSS2 (power) "Analog ground supply", A6 LDOO (power) "LDO output", A7 LDOI (power) "LDO input", A8 PU.1 (io) "General-purpose digital I/O - controlled by PU control register", A9 PU.0 (io) "General-purpose digital I/O - controlled by PU control register", B1 P6.2/CB2/A2 (io), B2 P6.1/CB1/A1 (io), B3 PJ.3/TCK (io), B4 P5.3/XT2OUT (io), B5 P5.2/XT2IN (io), B6 NC "No connect.", B7 NC "No connect.", B8 VSSU (power) "USB PHY ground supply", B9 VSSU (power) "USB PHY ground supply", C1 P6.4/CB4/A4 (io), C2 P6.3/CB3/A3 (io), C4 PJ.1/TDI/TCLK (io), C5 PJ.0/TDO (io), C6 RESERVED "should be connected to ground.", C7 P4.7/PM_NONE (io), C8 P4.6/PM_NONE (io), C9 P4.5/PM_UCA1RXD/PM_UCA1SOMI (io), D1 P6.6/CB6/A6 (io), D2 P6.5/CB5/A5 (io), D3 P6.7/CB7/A7 (io), D4 RESERVED "should be connected to ground.", D5 RESERVED "should be connected to ground.", D6 RESERVED "should be connected to ground.", D7 P4.4/PM_UCA1TXD/PM_UCA1SIMO (io), D8 P4.3/PM_UCB1CLK/PM_UCA1STE (io), D9 P4.2/PM_UCB1SOMI/PM_UCB1SCL (io), E1 P5.0/A8/VEREF+ (io), E2 P5.1/A9/VEREF- (io), E3 RESERVED "should be connected to ground.", E4 RESERVED "should be connected to ground.", E5 RESERVED "should be connected to ground.", E6 RESERVED "should be connected to ground.", E7 P4.1/PM_UCB1SIMO/PM_UCB1SDA (io), E8 P4.0/PM_UCB1STE/PM_UCA1CLK (io), E9 DVCC2 (power) "Digital power supply", F1 P5.4/XIN (io), F2 AVCC1 (power) "Analog power supply", F3 RESERVED "should be connected to ground.", F4 RESERVED "should be connected to ground.", F5 RESERVED "should be connected to ground.", F6 RESERVED "should be connected to ground.", F7 RESERVED "should be connected to ground.", F8 RESERVED "should be connected to ground.", F9 DVSS2 (power) "Digital ground supply", G1 P5.5/XOUT (io), G2 AVSS1 (power) "Analog ground supply", G3 RESERVED "should be connected to ground.", G4 P1.3/TA0.2 (io), G5 P1.6/TA1CLK/CBOUT (io), G6 P2.1/TA1.2 (io), G7 P3.4/UCA0RXD/UCA0SOMI (io), G8 P3.2/UCB0CLK/UCA0STE (io), G9 P3.3/UCA0TXD/UCA0SIMO (io), H1 DVCC1 (power) "Digital power supply", H2 P1.0/TA0CLK/ACLK (io), H3 P1.1/TA0.0 (io), H4 P1.4/TA0.3 (io), H5 P1.7/TA1.0 (io), H6 P2.3/TA2.0 (io), H7 P2.7/UCB0STE/UCA0CLK (io), H8 P3.0/UCB0SIMO/UCB0SDA (io), H9 P3.1/UCB0SOMI/UCB0SCL (io), J1 DVSS1 (power) "Digital ground supply", J2 VCORE "Regulated core power supply output (internal use only, no external current loading)", J3 P1.2/TA0.1 (io), J4 P1.5/TA0.4 (io), J5 P2.0/TA1.1 (io), J6 P2.2/TA2CLK/SMCLK (io), J7 P2.4/TA2.1 (io), J8 P2.5/TA2.2 (io), J9 P2.6/RTCCLK/DMAE0 (io)

## MSP430F5324IRGCR
designator U?
25 MHz Mixed Signal Microcontroller with 64 KB Flash, 6144 B SRAM and 48 GPIOs, 64-pin QFN (RGC), Green (RoHS & no Sb/Br); Manufacturer: Texas Instruments; PartNumber: MSP430F5324IRGCR; ADC: 12-bit SAR; ADC Channels: 16; Brown Out Reset: Yes; DMA: 3; Flash(KB): 64; Frequency(MHz): 25; GPIO: 48; Multiplier: 32x32; SRAM(B): 6144; SubFamily: 5 Series; Timers - 16-bit: 4; USCI_A (UART/LIN/IrDA/SPI): 2; DatasheetVersion: SLAS678C; PackageVersion: 4204106/F; PackageReference: RGC64; PackageDescription: 64-Pin Plastic Flat Pack, Body 9 x 9 mm, Pitch 0.5 mm; Supplier 1: Digi-Key; Supplier Part Number 1: 296-28134-2-ND; Supplier 2: Digi-Key; Supplier Part Number 2: 296-28134-1-ND; Supplier 3: Digi-Key; Supplier Part Number 3: 296-28134-6-ND; Supplier 4: Farnell; Supplier Part Number 4: 1866790; Supplier 5: Newark; Supplier Part Number 5: 27T6605; Supplier 6: Mouser; Supplier Part Number 6: 595-MSP430F5310IZQER; Comparators: Yes; Eco-Plan: Green (RoHS & no Sb/Br); Real-Time Clock: Yes; SVS: Yes; Temp Sensor: Yes; USCI_B (I2C & SPI): 2; Watchdog: Yes; Mounting Technology: Surface Mount; ComponentLink1Description: Manufacturer URL; ComponentLink1URL: http://www.ti.com/; ComponentLink2Description: Datasheet; ComponentLink2URL: http://www.ti.com/general/docs/lit/getliterature.tsp?genericPartNumber=MSP430F5324&fileType=pdf; ComponentLink3Description: Package Specification; ComponentLink3URL: http://www.ti.com/lit/ds/symlink/ucd3138.pdf
footprint TI-RGC64-4250X4250TP_N (QFN, 64-Leads, Body 9x9mm, Pitch 0.5mm, Thermal Pad 4.25x4.25mm, IPC Medium Density)
pins: 1 P6.0/CB0/A0 (io), 2 P6.1/CB1/A1 (io), 3 P6.2/CB2/A2 (io), 4 P6.3/CB3/A3 (io), 5 P6.4/CB4/A4 (io), 6 P6.5/CB5/A5 (io), 7 P6.6/CB6/A6 (io), 8 P6.7/CB7/A7 (io), 9 P5.0/A8/VREF+/VEREF+ (io), 10 P5.1/A9/VREF-/VEREF- (io), 11 AVCC1 (power) "Analog power supply", 12 P5.4/XIN (io), 13 P5.5/XOUT (io), 14 AVSS1 (power) "Analog ground supply", 15 DVCC1 (power) "Digital power supply", 16 DVSS1 (power) "Digital ground supply", 17 VCORE "Regulated core power supply output (internal use only, no external current loading)", 18 P1.0/TA0CLK/ACLK (io), 19 P1.1/TA0.0 (io), 20 P1.2/TA0.1 (io), 21 P1.3/TA0.2 (io), 22 P1.4/TA0.3 (io), 23 P1.5/TA0.4 (io), 24 P1.6/TA1CLK/CBOUT (io), 25 P1.7/TA1.0 (io), 26 P2.0/TA1.1 (io), 27 P2.1/TA1.2 (io), 28 P2.2/TA2CLK/SMCLK (io), 29 P2.3/TA2.0 (io), 30 P2.4/TA2.1 (io), 31 P2.5/TA2.2 (io), 32 P2.6/RTCCLK/DMAE0 (io), 33 P2.7/UCB0STE/UCA0CLK (io), 34 P3.0/UCB0SIMO/UCB0SDA (io), 35 P3.1/UCB0SOMI/UCB0SCL (io), 36 P3.2/UCB0CLK/UCA0STE (io), 37 P3.3/UCA0TXD/UCA0SIMO (io), 38 P3.4/UCA0RXD/UCA0SOMI (io), 39 DVSS2 (power) "Digital ground supply", 40 DVCC2 (power) "Digital power supply", 41 P4.0/PM_UCB1STE/PM_UCA1CLK (io), 42 P4.1/PM_UCB1SIMO/PM_UCB1SDA (io), 43 P4.2/PM_UCB1SOMI/PM_UCB1SCL (io), 44 P4.3/PM_UCB1CLK/PM_UCA1STE (io), 45 P4.4/PM_UCA1TXD/PM_UCA1SIMO (io), 46 P4.5/PM_UCA1RXD/PM_UCA1SOMI (io), 47 P4.6/PM_NONE (io), 48 P4.7/PM_NONE (io), 49 VSSU (power) "USB PHY ground supply", 50 PU.0 (io) "General-purpose digital I/O - controlled by PU control register", 51 NC "No connect.", 52 PU.1 (io) "General-purpose digital I/O - controlled by PU control register", 53 LDOI (power) "LDO input", 54 LDOO (power) "LDO output", 55 NC "No connect.", 56 AVSS2 (power) "Analog ground supply", 57 P5.2/XT2IN (io), 58 P5.3/XT2OUT (io), 59 TEST/SBWTCK (in), 60 PJ.0/TDO (io), 61 PJ.1/TDI/TCLK (io), 62 PJ.2/TMS (io), 63 PJ.3/TCK (io), 64 ~{RST}/NMI/SBWTDIO (io), 65 QFN PAD (power) "QFN package pad connection to VSS recommended"

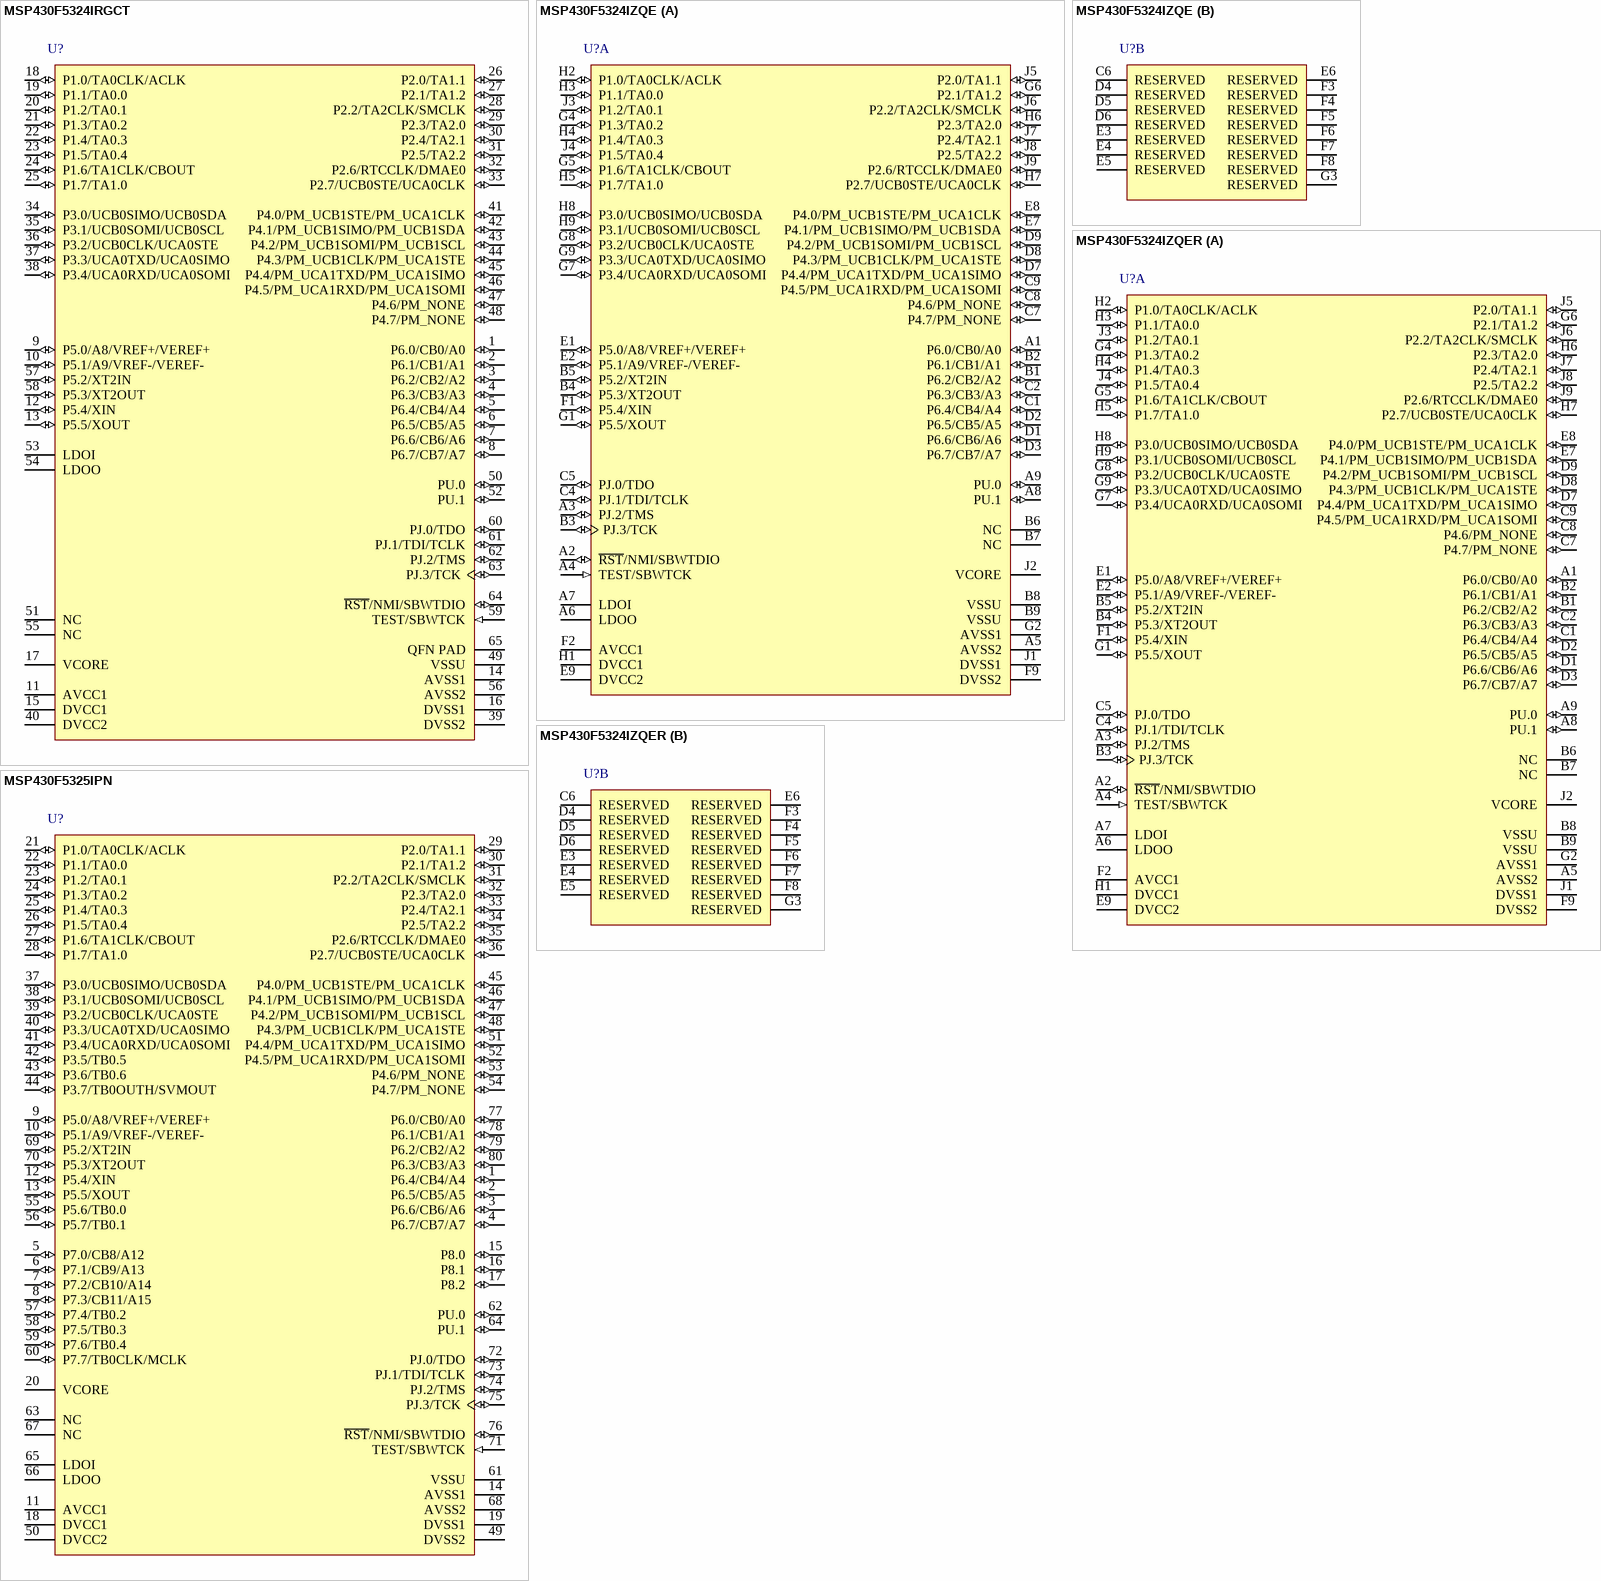
[diagram p98: symbols MSP430F5324IRGCT to MSP430F5325IPN]